# Altium footprint library Miscellaneous Devices LC.PcbLib: 559 footprints (part 6 of 35)
Each footprint in its own frame and in the unit in brackets; x right, y up, seen from the top. Pads: shape width x height; smd on the part's side, far side on the other; paste and mask are expansions set on the pad; w line width, h text height; cw(c..) or ccw(c..) is an arc to the next point about the centre after c.
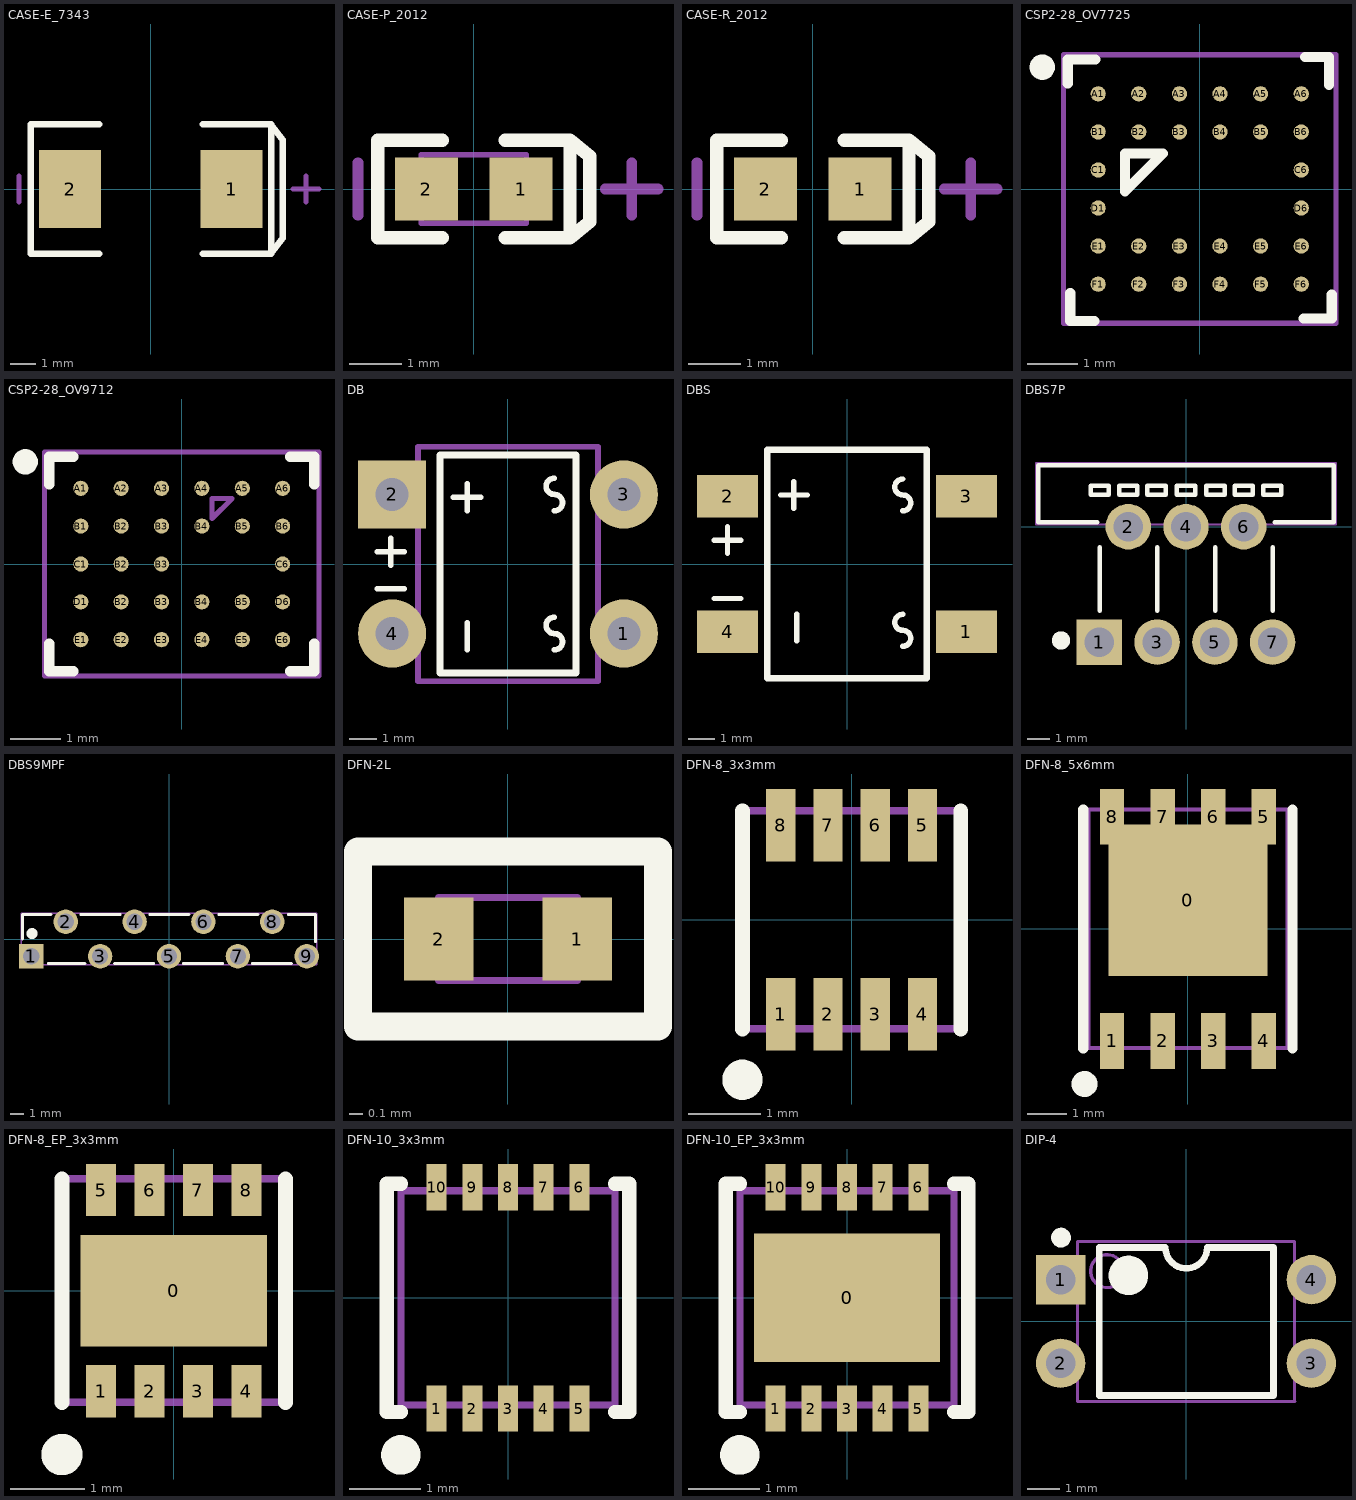
[diagram p5: the footprints below, top view; thin cyan lines are the x and y axes]

## CASE-E_7343 [mm]
pads (2):
  rect 2.4x3 smd: 1(3.12,0) 2(-3.12,0)
Top Overlay:
  lines w0.254: -2,-2.5 -4.647,-2.5 -4.647,2.5 -2,2.5 ; 2,-2.5 4.647,-2.5 ; 2,2.5 4.647,2.5 ; 4.647,-2.5 5.1,-1.9 5.1,1.9 4.647,2.5 ; 4.647,-2.5 4.647,2.5
Mechanical 15:
  lines w0.203: -5.1,-0.5 -5.1,0.5 ; 5.5,0 6.5,0 ; 6,-0.5 6,0.5
3D body "User Library-AVX_E_CASE.STEP": height 4.2, standoff 0, extent -3.701,-2.225 3.7,2.225

## CASE-P_2012 [mm]
pads (2):
  rect 1.2x1.2 smd: 1(0.9,0) 2(-0.9,0)
Top Overlay:
  lines w0.254: -0.6,-0.927 -1.827,-0.927 -1.827,0.927 -0.6,0.927 ; 0.6,-0.927 1.827,-0.927 ; 0.6,0.927 1.827,0.927 ; 1.827,-0.927 1.827,0.927 ; 1.827,-0.927 2.2,-0.623 2.2,0.623 1.827,0.927
Mechanical 13:
  lines w0.1: -1,-0.65 -1,0.65 1,0.65 1,-0.65 -1,-0.65
Mechanical 15:
  lines w0.203: -2.2,-0.5 -2.2,0.5 ; 2.5,0 3.5,0 ; 3,-0.5 3,0.5

## CASE-R_2012 [mm]
pads (2):
  rect 1.2x1.2 smd: 1(0.9,0) 2(-0.9,0)
Top Overlay:
  lines w0.254: -0.6,-0.927 -1.827,-0.927 -1.827,0.927 -0.6,0.927 ; 0.6,-0.927 1.827,-0.927 ; 0.6,0.927 1.827,0.927 ; 1.827,-0.927 1.827,0.927 ; 1.827,-0.927 2.2,-0.623 2.2,0.623 1.827,0.927
Mechanical 15:
  lines w0.203: -2.2,-0.5 -2.2,0.5 ; 2.5,0 3.5,0 ; 3,-0.5 3,0.5
3D body "User Library-CaseR_2012-12.STEP": height 1.2, standoff 0, extent -1,-0.65 1,0.65

## CSP2-28_OV7725 [mm]
pads (28):
  round 0.3 smd mask+0.051: A1(-2,1.875) A2(-1.2,1.875) A3(-0.4,1.875) A4(0.4,1.875) A5(1.2,1.875) A6(2,1.875) B1(-2,1.125) B2(-1.2,1.125) B3(-0.4,1.125) B4(0.4,1.125) B5(1.2,1.125) B6(2,1.125) C1(-2,0.375) C6(2,0.375) D1(-2,-0.375) D6(2,-0.375) E1(-2,-1.125) E2(-1.2,-1.125) E3(-0.4,-1.125) E4(0.4,-1.125) E5(1.2,-1.125) E6(2,-1.125) F1(-2,-1.875) F2(-1.2,-1.875) F3(-0.4,-1.875) F4(0.4,-1.875) F5(1.2,-1.875) F6(2,-1.875)
Top Overlay:
  circle w0.25: c-3.1,2.4 r0.125
  lines w0.2: -2.6,2.075 -2.6,2.55 -2.05,2.55 ; -2.55,-2.05 -2.55,-2.6 -2.075,-2.6 ; 2.05,-2.55 2.6,-2.55 2.6,-2.075 ; 2.075,2.6 2.55,2.6 2.55,2.05 ; -1.475,-0.05 -1.475,0.7 -0.725,0.7 -1.475,-0.05
Mechanical 13:
  lines w0.1: -2.685,-2.645 2.685,-2.645 2.685,2.645 -2.685,2.645 -2.685,-2.645

## CSP2-28_OV9712 [mm]
pads (28):
  round 0.3 smd mask+0.051: A1(-2,1.5) A2(-1.2,1.5) A3(-0.4,1.5) A4(0.4,1.5) A5(1.2,1.5) A6(2,1.5) B1(-2,0.75) B2(-1.2,-0.75) B2(-1.2,0) B2(-1.2,0.75) B3(-0.4,-0.75) B3(-0.4,0) B3(-0.4,0.75) B4(0.4,-0.75) B4(0.4,0.75) B5(1.2,-0.75) B5(1.2,0.75) B6(2,0.75) C1(-2,0) C6(2,0) D1(-2,-0.75) D6(2,-0.75) E1(-2,-1.5) E2(-1.2,-1.5) E3(-0.4,-1.5) E4(0.4,-1.5) E5(1.2,-1.5) E6(2,-1.5)
Top Overlay:
  circle w0.25: c-3.1,2.025 r0.125
  lines w0.2: -2.625,-1.575 -2.625,-2.125 -2.15,-2.125 ; -2.625,1.575 -2.625,2.125 -2.15,2.125 ; 2.15,-2.125 2.625,-2.125 2.625,-1.575 ; 2.15,2.125 2.625,2.125 2.625,1.575
Mechanical 13:
  lines w0.1: -2.72,-2.22 2.72,-2.22 2.72,2.22 -2.72,2.22 -2.72,-2.22 ; 0.6,0.9 0.6,1.3 1,1.3 0.6,0.9

## DB [mm]
pads (4):
  round 2.5 hole 1.2: 1(4.25,-2.55) 3(4.25,2.55) 4(-4.25,-2.55)
  rect 2.5x2.5 hole 1.2: 2(-4.25,2.55)
Top Overlay:
  lines w0.203: -4.8,-0.9 -3.8,-0.9 ; -4.8,0.45 -3.8,0.45 ; -4.3,-0.05 -4.3,0.95 ; -2,2.45 -1,2.45 ; -1.5,-3.15 -1.5,-2.15 ; -1.5,1.95 -1.5,2.95 ; 1.7,-3.15 ccw(c1.7,-2.85) 1.7,-2.55 cw(c1.7,-2.25) 1.7,-1.95 ; 1.7,1.95 ccw(c1.7,2.25) 1.7,2.55 cw(c1.7,2.85) 1.7,3.15
  lines w0.254: -2.5,-4 -2.5,4 2.5,4 2.5,-4 -2.5,-4
Mechanical 13:
  lines w0.203: -3.3,-4.3 3.3,-4.3 3.3,4.3 -3.3,4.3 -3.3,-4.3

## DBS [mm]
pads (4):
  rect 2.3x1.6 smd: 1(4.5,-2.55) 2(-4.5,2.55) 3(4.5,2.55) 4(-4.5,-2.55)
Top Overlay:
  lines w0.203: -5,-1.3 -4,-1.3 ; -5,0.9 -4,0.9 ; -4.5,0.4 -4.5,1.4 ; -2.5,2.6 -1.5,2.6 ; -2,2.1 -2,3.1 ; -1.9,-2.9 -1.9,-1.9 ; 2.1,-3.1 ccw(c2.1,-2.8) 2.1,-2.5 cw(c2.1,-2.2) 2.1,-1.9 ; 2.1,2 ccw(c2.1,2.3) 2.1,2.6 cw(c2.1,2.9) 2.1,3.2
  lines w0.254: -3,-4.3 3,-4.3 3,4.3 -3,4.3 -3,-4.3

## DBS7P [mm]
pads (7):
  rect 2x2 hole 1.3: 1(-3.81,-5.08)
  round 2 hole 1.3: 2(-2.54,0) 3(-1.27,-5.08) 4(0,0) 5(1.27,-5.08) 6(2.54,0) 7(3.81,-5.08)
Top Overlay:
  circle w0.4: c-5.5,-5 r0.2
  lines w0.2: -4,1.8 -3.6,1.8 ; -3.9,0.2 -6.5,0.2 -6.5,2.7 6.5,2.7 6.5,0.2 3.9,0.2 ; -3.8,-3.7 -3.8,-0.9 ; -2.74,1.8 -2.34,1.8 ; -1.5,1.8 -1.1,1.8 ; -1.26,-3.7 -1.26,-0.9 ; -0.2,1.8 0.2,1.8 ; 1.1,1.8 1.5,1.8 ; 1.28,-3.7 1.28,-0.9 ; 2.34,1.8 2.74,1.8 ; 3.6,1.8 4,1.8 ; 3.82,-3.7 3.82,-0.9 ; -4.2,1.4 -4.2,1.8 -3.4,1.8 -3.4,1.4 -4.2,1.4 ; -2.94,1.4 -2.94,1.8 -2.14,1.8 -2.14,1.4 -2.94,1.4 ; -1.7,1.4 -1.7,1.8 -0.9,1.8 -0.9,1.4 -1.7,1.4 ; -0.4,1.4 0.4,1.4 0.4,1.8 -0.4,1.8 -0.4,1.4 ; 0.9,1.4 0.9,1.8 1.7,1.8 1.7,1.4 0.9,1.4 ; 2.14,1.4 2.14,1.8 2.94,1.8 2.94,1.4 2.14,1.4 ; 3.4,1.4 3.4,1.8 4.2,1.8 4.2,1.4 3.4,1.4
Mechanical 13:
  lines w0.1: -6.6,0.1 -6.6,2.8 6.6,2.8 6.6,0.1 -6.6,0.1

## DBS9MPF [mm]
pads (9):
  rect 1.8x1.8 hole 1.2: 1(-10.16,-1.27)
  round 1.8 hole 1.2: 2(-7.62,1.27) 3(-5.08,-1.27) 4(-2.54,1.27) 5(0,-1.27) 6(2.54,1.27) 7(5.08,-1.27) 8(7.62,1.27) 9(10.16,-1.27)
Top Overlay:
  circle w0.4: c-10.1,0.4 r0.2
  lines w0.2: -10.8,0 -10.8,1.8 -8.7,1.8 ; -8.9,-1.8 -6.2,-1.8 ; -6.5,1.8 -3.6,1.8 ; -4.02,-1.8 -1.12,-1.8 ; -1.42,1.8 1.48,1.8 ; 1.06,-1.8 3.96,-1.8 ; 3.66,1.8 6.56,1.8 ; 6.14,-1.8 9.04,-1.8 ; 8.8,1.8 10.8,1.8 10.8,-0.2
Mechanical 13:
  lines w0.1: -10.9,-1.9 10.9,-1.9 10.9,1.9 -10.9,1.9 -10.9,-1.9

## DFN-2L [mm]
pads (2):
  rect 0.5x0.6 smd: 1(0.5,0) 2(-0.5,0)
Top Overlay:
  lines w0.203: -1.08,-0.63 -1.08,0.63 1.08,0.63 1.08,-0.63 -1.08,-0.63
Mechanical 13:
  lines w0.051: -0.5,-0.3 0.5,-0.3 0.5,0.3 -0.5,0.3 -0.5,-0.3

## DFN-8_3x3mm [mm]
pads (8):
  rect 0.4x1 smd mask+0.051: 1(-0.975,-1.3) 2(-0.325,-1.3) 3(0.325,-1.3) 4(0.975,-1.3) 5(0.975,1.3) 6(0.325,1.3) 7(-0.325,1.3) 8(-0.975,1.3)
Top Overlay:
  circle w0.3: c-1.5,-2.2 r0.127
  lines w0.203: -1.5,-1.5 -1.5,1.5 ; 1.5,-1.5 1.5,1.5
Mechanical 13:
  lines w0.1: -1.5,-1.5 1.5,-1.5 1.5,1.5 -1.5,1.5 -1.5,-1.5

## DFN-8_5x6mm [mm]
pads (9):
  rect 4x3.81 smd: 0(0,0.716)
  rect 0.61x1.4 smd: 1(-1.905,-2.816) 2(-0.635,-2.816) 3(0.635,-2.816) 4(1.905,-2.816) 5(1.905,2.816) 6(0.635,2.816) 7(-0.635,2.816) 8(-1.905,2.816)
Top Overlay:
  circle w0.4: c-2.6,-3.9 r0.125
  lines w0.254: -2.63,-3 -2.63,3 ; 2.63,-3 2.63,3
Mechanical 13:
  lines w0.1: -2.5,-3 2.5,-3 2.5,3 -2.5,3 -2.5,-3

## DFN-8_EP_3x3mm [mm]
pads (9):
  rect 2.5x1.5 smd mask+0.051: 0(0,0)
  rect 0.4x0.7 smd mask+0.051: 1(-0.975,-1.35) 2(-0.325,-1.35) 3(0.325,-1.35) 4(0.975,-1.35) 5(-0.975,1.35) 6(-0.325,1.35) 7(0.325,1.35) 8(0.975,1.35)
Top Overlay:
  circle w0.3: c-1.5,-2.2 r0.127
  lines w0.203: -1.5,-1.5 -1.5,1.5 ; 1.5,-1.5 1.5,1.5
Mechanical 13:
  lines w0.1: -1.5,-1.5 1.5,-1.5 1.5,1.5 -1.5,1.5 -1.5,-1.5

## DFN-10_3x3mm [mm]
pads (10):
  rect 0.28x0.65 smd mask+0.051: 1(-1,-1.55) 2(-0.5,-1.55) 3(0,-1.55) 4(0.5,-1.55) 5(1,-1.55) 6(1,1.55) 7(0.5,1.55) 8(0,1.55) 9(-0.5,1.55) 10(-1,1.55)
Top Overlay:
  circle w0.3: c-1.5,-2.2 r0.127
  lines w0.2: -1.5,-1.6 -1.7,-1.6 -1.7,1.6 -1.5,1.6 ; 1.5,-1.6 1.7,-1.6 1.7,1.6 1.5,1.6
Mechanical 13:
  lines w0.1: -1.5,-1.5 1.5,-1.5 1.5,1.5 -1.5,1.5 -1.5,-1.5

## DFN-10_EP_3x3mm [mm]
pads (11):
  rect 2.6x1.8 smd mask+0.051: 0(0,0)
  rect 0.28x0.65 smd mask+0.051: 1(-1,-1.55) 2(-0.5,-1.55) 3(0,-1.55) 4(0.5,-1.55) 5(1,-1.55) 6(1,1.55) 7(0.5,1.55) 8(0,1.55) 9(-0.5,1.55) 10(-1,1.55)
Top Overlay:
  circle w0.3: c-1.5,-2.2 r0.127
  lines w0.2: -1.5,-1.6 -1.7,-1.6 -1.7,1.6 -1.5,1.6 ; 1.5,-1.6 1.7,-1.6 1.7,1.6 1.5,1.6
Mechanical 13:
  lines w0.1: -1.5,-1.5 -1.5,1.5 1.5,1.5 1.5,-1.5 -1.5,-1.5

## DIP-4 [mm]
pads (4):
  rect 1.5x1.5 hole 0.9: 1(-3.81,1.27)
  round 1.5 hole 0.9: 2(-3.81,-1.27) 3(3.81,-1.27) 4(3.81,1.27)
Top Overlay:
  circle w0.3: c-3.8,2.55 r0.15
  circle w0.6: c-1.75,1.4 r0.3
  lines w0.2: -2.64,-2.25 2.66,-2.25 2.66,2.25 0.645,2.25 cw(c0.01,2.25) -0.625,2.25 -2.64,2.25 -2.64,-2.25
Mechanical 13:
  circle w0.1: c-2.4,1.53 r0.5
  lines w0.1: -3.3,-2.43 -3.3,2.43 3.3,2.43 3.3,-2.43 ; -3.29,-2.43 3.31,-2.43